# EAGLE library part EEPROM-I2C (library pixhawk2-updated)
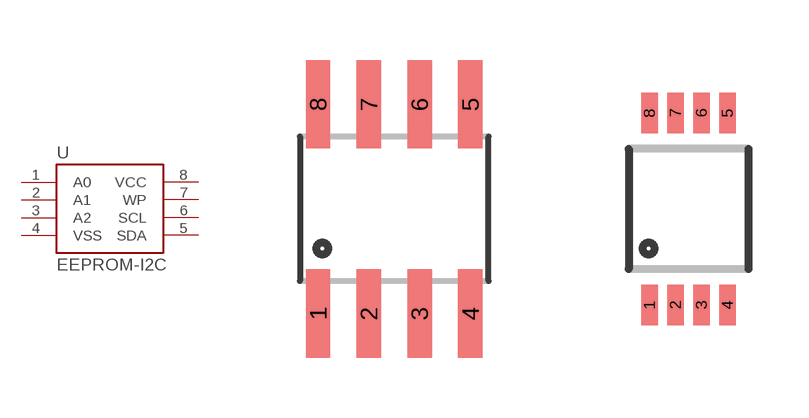
[diagram p1: symbol with the pads of SO08; footprints SO08, MSOP-8]

Designator prefix U

## EEPROM-I2CSMD  [SO08]
1  A0
2  A1
3  A2
4  VSS  pwr
5  SDA
6  SCL
7  WP
8  VCC  pwr

## EEPROM-I2CMSOP  [MSOP-8]
Pads as for SO08

## Footprint SO08 (pad centres in mm)
Small Outline Package Fits JEDEC packages (narrow SOIC-8)
smd 0.61 x 2.21: 1 -1.905,-2.616; 2 -0.635,-2.616; 3 0.635,-2.616; 4 1.905,-2.616; 5 1.905,2.616; 6 0.635,2.616; 7 -0.635,2.616; 8 -1.905,2.616

## Footprint MSOP-8 (pad centres in mm)
smd 0.41 x 1.02: 1 -0.975,-2.4; 2 -0.325,-2.4; 3 0.325,-2.4; 4 0.975,-2.4; 5 0.975,2.4; 6 0.325,2.4; 7 -0.325,2.4; 8 -0.975,2.4